# Altium footprint library IC_INTERFACE_LIB.PcbLib: 3 footprints
Each footprint in its own frame and in the unit in brackets; x right, y up, seen from the top. Pads: shape width x height; smd on the part's side, far side on the other; paste and mask are expansions set on the pad; w line width, h text height; cw(c..) or ccw(c..) is an arc to the next point about the centre after c.
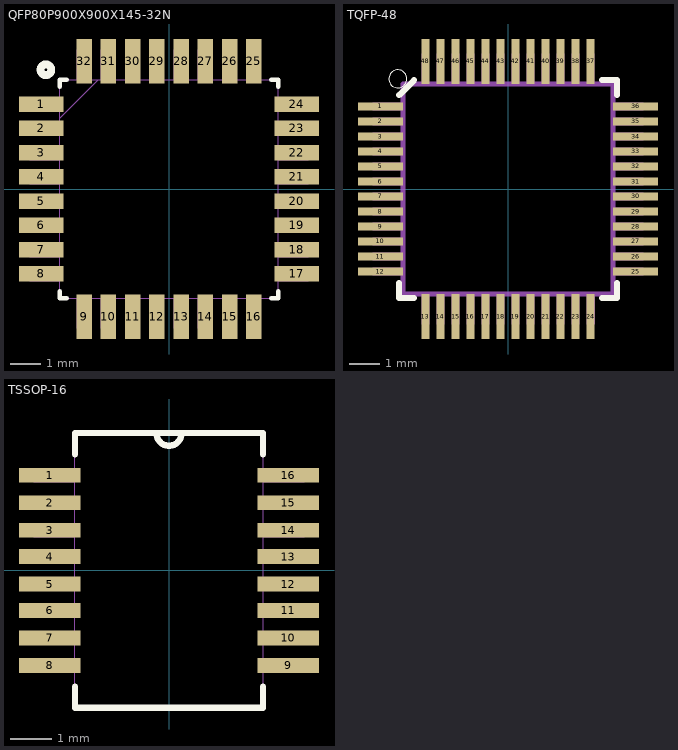
[diagram p0: the footprints below, top view; thin cyan lines are the x and y axes]

## QFP80P900X900X145-32N [mil]
pads (32):
  rect 58x20 smd: 1(-166,110) 2(-166,79) 3(-166,47) 4(-166,16) 5(-166,-16) 6(-166,-47) 7(-166,-79) 8(-166,-110) 17(166,-110) 18(166,-79) 19(166,-47) 20(166,-16) 21(166,16) 22(166,47) 23(166,79) 24(166,110)
  rect 20x58 smd: 9(-110,-166) 10(-79,-166) 11(-47,-166) 12(-16,-166) 13(16,-166) 14(47,-166) 15(79,-166) 16(110,-166) 25(110,166) 26(79,166) 27(47,166) 28(16,166) 29(-16,166) 30(-47,166) 31(-79,166) 32(-110,166)
Top Overlay:
  circle w10: c-160,155 r7.07
  lines w6: -142,-133 -142,-142 -133,-142 ; -142,133 -142,142 -133,142 ; 133,-142 142,-142 142,-133 ; 133,142 142,142 142,133
Mechanical 13:
  lines w0: -142,92 -92,142 ; -181,-119 -142,-119 -142,-101 -181,-101 -181,-119 ; -181,-88 -142,-88 -142,-70 -181,-70 -181,-88 ; -181,-56 -142,-56 -142,-38 -181,-38 -181,-56 ; -181,-25 -142,-25 -142,-7 -181,-7 -181,-25 ; -181,7 -142,7 -142,25 -181,25 -181,7 ; -181,38 -142,38 -142,56 -181,56 -181,38 ; -181,70 -142,70 -142,88 -181,88 -181,70 ; -181,101 -142,101 -142,119 -181,119 -181,101 ; -142,-142 -142,142 142,142 142,-142 -142,-142 ; -119,-181 -101,-181 -101,-142 -119,-142 -119,-181 ; -119,142 -119,181 -101,181 -101,142 -119,142 ; -88,-181 -70,-181 -70,-142 -88,-142 -88,-181 ; -88,142 -88,181 -70,181 -70,142 -88,142 ; -56,-181 -38,-181 -38,-142 -56,-142 -56,-181 ; -56,142 -56,181 -38,181 -38,142 -56,142 ; -25,-181 -7,-181 -7,-142 -25,-142 -25,-181 ; -25,142 -25,181 -7,181 -7,142 -25,142 ; 7,-181 25,-181 25,-142 7,-142 7,-181 ; 7,142 7,181 25,181 25,142 7,142 ; 38,-181 56,-181 56,-142 38,-142 38,-181 ; 38,142 38,181 56,181 56,142 38,142 ; 70,-181 88,-181 88,-142 70,-142 70,-181 ; 70,142 70,181 88,181 88,142 70,142 ; 101,-181 119,-181 119,-142 101,-142 101,-181 ; 101,142 101,181 119,181 119,142 101,142 ; 142,-119 181,-119 181,-101 142,-101 142,-119 ; 142,-88 181,-88 181,-70 142,-70 142,-88 ; 142,-56 181,-56 181,-38 142,-38 142,-56 ; 142,-25 181,-25 181,-7 142,-7 142,-25 ; 142,7 181,7 181,25 142,25 142,7 ; 142,38 181,38 181,56 142,56 142,38 ; 142,70 181,70 181,88 142,88 142,70 ; 142,101 181,101 181,119 142,119 142,101
3D body "TQFP 32.stp": height 47.24, standoff 0.01, extent -177.16,-177.16 177.17,177.17

## TQFP-48 [mm]
pads (48):
  rect 1.5x0.28 smd: 1(-4.25,2.75) 2(-4.25,2.25) 3(-4.25,1.75) 4(-4.25,1.25) 5(-4.25,0.75) 6(-4.25,0.25) 7(-4.25,-0.25) 8(-4.25,-0.75) 9(-4.25,-1.25) 10(-4.25,-1.75) 11(-4.25,-2.25) 12(-4.25,-2.75) 25(4.25,-2.75) 26(4.25,-2.25) 27(4.25,-1.75) 28(4.25,-1.25) 29(4.25,-0.75) 30(4.25,-0.25) 31(4.25,0.25) 32(4.25,0.75) 33(4.25,1.25) 34(4.25,1.75) 35(4.25,2.25) 36(4.25,2.75)
  rect 0.28x1.5 smd: 13(-2.75,-4.25) 14(-2.25,-4.25) 15(-1.75,-4.25) 16(-1.25,-4.25) 17(-0.75,-4.25) 18(-0.25,-4.25) 19(0.25,-4.25) 20(0.75,-4.25) 21(1.25,-4.25) 22(1.75,-4.25) 23(2.25,-4.25) 24(2.75,-4.25) 37(2.75,4.25) 38(2.25,4.25) 39(1.75,4.25) 40(1.25,4.25) 41(0.75,4.25) 42(0.25,4.25) 43(-0.25,4.25) 44(-0.75,4.25) 45(-1.25,4.25) 46(-1.75,4.25) 47(-2.25,4.25) 48(-2.75,4.25)
Top Overlay:
  circle w0: c-3.673,3.673 r0.3
  lines w0.203: -3.627,-3.127 -3.627,-3.627 -3.127,-3.627 ; -3.627,3.127 -3.127,3.627 ; 3.127,-3.627 3.627,-3.627 3.627,-3.127 ; 3.127,3.627 3.627,3.627 3.627,3.127
Mechanical 11:
  drawing of 52 lines, arcs and shapes, not listed
3D body "TQFP-48_7x7mm_P0.5mm.step": height 1.1, standoff 0, extent -4.5,-4.5 4.5,4.5

## TSSOP-16 [mil] "TSSOP-16"
pads (16):
  rect 58x14 smd: 1(-113,90) 2(-113,64) 3(-113,38) 4(-113,13) 5(-113,-13) 6(-113,-38) 7(-113,-64) 8(-113,-90) 9(113,-90) 10(113,-64) 11(113,-38) 12(113,-13) 13(113,13) 14(113,38) 15(113,64) 16(113,90)
Top Overlay:
  lines w6: -89,-110 -89,-130 89,-130 89,-110 ; -89,110 -89,130 -12,130 ; 89,110 89,130 12,130 ; -12,130 ccw(c0,130) 12,130 ; -12,130 12,130
Mechanical 11:
  lines w0: -128,-95 -89,-95 ; -128,-95 -128,-84 ; -128,-95 -89,-95 ; -128,-95 -128,-84 ; -128,-84 -89,-84 ; -128,-84 -89,-84 ; -128,-70 -89,-70 ; -128,-70 -128,-58 ; -128,-70 -89,-70 ; -128,-70 -128,-58 ; -128,-58 -89,-58 ; -128,-58 -89,-58 ; -128,-44 -89,-44 ; -128,-44 -128,-32 ; -128,-44 -89,-44 ; -128,-44 -128,-32 ; -128,-32 -89,-32 ; -128,-32 -89,-32 ; -128,-19 -89,-19 ; -128,-19 -128,-7 ; -128,-19 -89,-19 ; -128,-19 -128,-7 ; -128,-7 -89,-7 ; -128,-7 -89,-7 ; -128,7 -89,7 ; -128,7 -128,19 ; -128,7 -89,7 ; -128,7 -128,19 ; -128,19 -89,19 ; -128,19 -89,19 ; -128,32 -89,32 ; -128,32 -128,44 ; -128,32 -89,32 ; -128,32 -128,44 ; -128,44 -89,44 ; -128,44 -89,44 ; -128,58 -89,58 ; -128,58 -128,70 ; -128,58 -89,58 ; -128,58 -128,70 ; -128,70 -89,70 ; -128,70 -89,70 ; -128,84 -89,84 ; -128,84 -128,95 ; -128,84 -89,84 ; -128,84 -128,95 ; -128,95 -89,95 ; -128,95 -89,95 ; -89,-130 -89,130 ; -89,-130 89,-130 ; -89,-130 -89,130 ; -89,-130 89,-130 ; -89,-95 -89,-84 ; -89,-95 -89,-84 ; -89,-70 -89,-58 ; -89,-70 -89,-58 ; -89,-44 -89,-32 ; -89,-44 -89,-32 ; -89,-19 -89,-7 ; -89,-19 -89,-7 ; -89,7 -89,19 ; -89,7 -89,19 ; -89,32 -89,44 ; -89,32 -89,44 ; -89,58 -89,70 ; -89,58 -89,70 ; -89,84 -89,95 ; -89,84 -89,95 ; -89,130 -12,130 ; -89,130 -12,130 ; -12,130 ccw(c0,130) 12,130 ; -12,130 ccw(c0,130) 12,130 ; -12,130 12,130 ; -12,130 12,130 ; 12,130 89,130 ; 12,130 89,130 ; 89,-130 89,130 ; 89,-130 89,130 ; 89,-95 128,-95 ; 89,-95 89,-84 ; 89,-95 128,-95 ; 89,-95 89,-84 ; 89,-84 128,-84 ; 89,-84 128,-84 ; 89,-70 128,-70 ; 89,-70 89,-58 ; 89,-70 128,-70 ; 89,-70 89,-58 ; 89,-58 128,-58 ; 89,-58 128,-58 ; 89,-44 128,-44 ; 89,-44 89,-32 ; 89,-44 128,-44 ; 89,-44 89,-32 ; 89,-32 128,-32 ; 89,-32 128,-32 ; 89,-19 128,-19 ; 89,-19 89,-7 ; 89,-19 128,-19 ; 89,-19 89,-7 ; 89,-7 128,-7 ; 89,-7 128,-7 ; 89,7 128,7 ; 89,7 89,19 ; 89,7 128,7 ; 89,7 89,19 ; 89,19 128,19 ; 89,19 128,19 ; 89,32 128,32 ; 89,32 89,44 ; 89,32 128,32 ; 89,32 89,44 ; 89,44 128,44 ; 89,44 128,44 ; 89,58 128,58 ; 89,58 89,70 ; 89,58 128,58 ; 89,58 89,70 ; 89,70 128,70 ; 89,70 128,70 ; 89,84 128,84 ; 89,84 89,95 ; 89,84 128,84 ; 89,84 89,95 ; 89,95 128,95 ; 89,95 128,95 ; 128,-95 128,-84 ; 128,-95 128,-84 ; 128,-70 128,-58 ; 128,-70 128,-58 ; 128,-44 128,-32 ; 128,-44 128,-32 ; 128,-19 128,-7 ; 128,-19 128,-7 ; 128,7 128,19 ; 128,7 128,19 ; 128,32 128,44 ; 128,32 128,44 ; 128,58 128,70 ; 128,58 128,70 ; 128,84 128,95 ; 128,84 128,95